# Altium schematic symbol library MIC5317-1.2YM5-TR.SchLib: 1 symbol
Pins are listed as number, name and electrical type; pins without a type are passive.

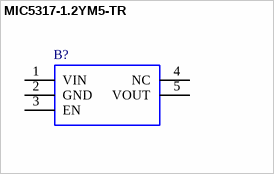
[diagram p0: symbol MIC5317-1.2YM5-TR]

## MIC5317-1.2YM5-TR
designator B?
LDO Voltage Regulators Single LDO, Hi-Perf. 150mA, 1.2 Vout; Manufacturer_Name: Microchip; Geometry.Height: 1.45mm; Mouser Part Number: 998-MIC5317-1.2YM5TR; Mouser Price/Stock: https://www.mouser.co.uk/ProductDetail/Microchip-Technology/MIC5317-12YM5-TR?qs=U6T8BxXiZAUk7GFYLwZxxw%3D%3D; Manufacturer_Part_Number: MIC5317-1.2YM5-TR; Datasheet Link: http://www.microchip.com/mymicrochip/filehandler.aspx?ddocname=en579427
footprint SOT95P280X145-5N
pins: 1 VIN, 2 GND, 3 EN, 4 NC, 5 VOUT